# Altium footprint library PCB.PcbLib: 19 footprints (part 2 of 2)
Each footprint in its own frame and in the unit in brackets; x right, y up, seen from the top. Pads: shape width x height; smd on the part's side, far side on the other; paste and mask are expansions set on the pad; w line width, h text height; cw(c..) or ccw(c..) is an arc to the next point about the centre after c.
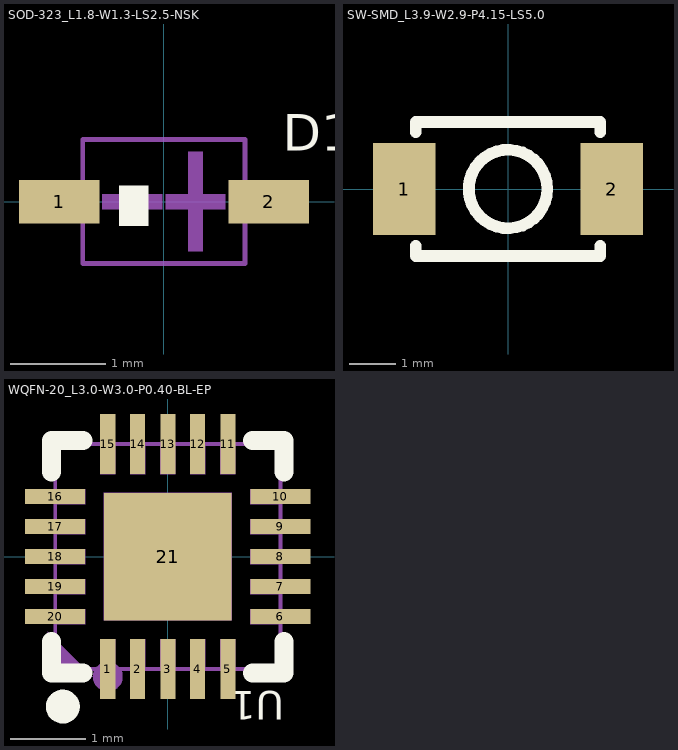
[diagram p1: the footprints below, top view; thin cyan lines are the x and y axes]

## SOD-323_L1.8-W1.3-LS2.5-NSK [mil]
pads (2):
  rect 33.3x17.9 smd paste+0 mask+2: 1(-43.2,0) 2(43.2,0)
Top Overlay:
  region: -6.5,6.6 -6.5,-10 -18.5,-10 -18.5,6.6
  text "D1" at 49,21 h15
Mechanical 6:
  region: -25.4,3.1 -25.4,-3.1 -0.8,-3.1 -0.8,3.1
  region: 25.4,3.1 25.4,-3.1 0.8,-3.1 0.8,3.1
  region: 16.1,20.5 16.1,-20.5 10,-20.5 10,20.5
Mechanical 15:
  region: -33.1,6.3 -33.1,-6.3 -37.8,-6.3 -37.8,6.3
  region: -37.4,6.3 -37.4,-6.3 -49.2,-6.3 -49.2,6.3
  region: 37.8,6.3 37.8,-6.3 33.1,-6.3 33.1,6.3
  region: 49.2,6.3 49.2,-6.3 37.4,-6.3 37.4,6.3
  lines w2: -33.5,-25.6 33.5,-25.6 33.5,25.6 -33.5,25.6 -33.5,-25.6

## SW-SMD_L3.9-W2.9-P4.15-LS5.0 [mm]
pads (2):
  rect 1.35x2 smd paste+0 mask+0.051: 1(-2.25,0) 2(2.25,0)
Top Overlay:
  circle w0.254: c0,0 r0.85
  lines w0.254: -2,-1.231 -2,-1.45 2,-1.45 2,-1.231 ; -2,1.231 -2,1.45 2,1.45 2,1.231

## WQFN-20_L3.0-W3.0-P0.40-BL-EP [mil]
pads (21):
  rect 7.9x31.5 smd paste+0 mask+2: 1(-31.5,-59.1) 2(-15.8,-59.1) 3(0,-59.1) 4(15.7,-59.1) 5(31.5,-59.1) 11(31.5,59.1) 12(15.7,59.1) 13(0,59.1) 14(-15.8,59.1) 15(-31.5,59.1)
  rect 31.5x7.9 smd paste+0 mask+2: 6(59.1,-31.5) 7(59.1,-15.7) 8(59.1,0) 9(59.1,15.7) 10(59.1,31.5) 16(-59.1,31.5) 17(-59.1,15.8) 18(-59.1,0) 19(-59.1,-15.7) 20(-59.1,-31.5)
  rect 66.9x66.9 smd paste+0 mask+2: 21(0,0)
Top Overlay:
  circle w10: c-55.1,-78.7 r3.9
  lines w10: -61,-44.5 -61,-61 -44.5,-61 ; -61,44.5 -61,61 -44.5,61 ; 44.5,-61 61,-61 61,-44.5 ; 44.5,61 61,61 61,44.5
  text "U1" at 61.12,-70.57 h15
Mechanical 6:
  circle w7.9: c-31.5,-63 r3.9
  region: -63,-63 -63,-39.4 -39.4,-63
Mechanical 15:
  region: -59.1,-35.4 -59.1,-27.6 -43.3,-27.6 -43.3,-35.4
  region: -59.1,-19.7 -59.1,-11.8 -43.3,-11.8 -43.3,-19.7
  region: -59.1,-3.9 -59.1,3.9 -43.3,3.9 -43.3,-3.9
  region: -59.1,11.8 -59.1,19.7 -43.3,19.7 -43.3,11.8
  region: -59.1,27.6 -59.1,35.4 -43.3,35.4 -43.3,27.6
  region: -27.6,43.3 -35.4,43.3 -35.4,59.1 -27.6,59.1
  region: -11.8,43.3 -19.7,43.3 -19.7,59.1 -11.8,59.1
  region: 3.9,43.3 -3.9,43.3 -3.9,59.1 3.9,59.1
  region: 19.7,43.3 11.8,43.3 11.8,59.1 19.7,59.1
  region: 35.4,43.3 27.6,43.3 27.6,59.1 35.4,59.1
  region: 59.1,35.4 59.1,27.6 43.3,27.6 43.3,35.4
  region: 59.1,19.7 59.1,11.8 43.3,11.8 43.3,19.7
  region: 59.1,3.9 59.1,-3.9 43.3,-3.9 43.3,3.9
  region: 59.1,-11.8 59.1,-19.7 43.3,-19.7 43.3,-11.8
  region: 59.1,-27.6 59.1,-35.4 43.3,-35.4 43.3,-27.6
  region: 35.4,-59 27.6,-59 27.6,-43.3 35.4,-43.3
  region: 19.7,-59 11.8,-59 11.8,-43.3 19.7,-43.3
  region: 3.9,-59 -3.9,-59 -3.9,-43.3 3.9,-43.3
  region: -11.8,-59 -19.7,-59 -19.7,-43.3 -11.8,-43.3
  region: -27.6,-59 -35.4,-59 -35.4,-43.3 -27.6,-43.3
  region: -33.5,-33.5 -33.5,33.5 33.5,33.5 33.5,-33.5
  lines w2: -59.1,-59 -59.1,59.1 59.1,59.1 59.1,-59 -59.1,-59